# Altium footprint library Type-C.PcbLib: 1 footprints
Each footprint in its own frame and in the unit in brackets; x right, y up, seen from the top. Pads: shape width x height; smd on the part's side, far side on the other; paste and mask are expansions set on the pad; w line width, h text height; cw(c..) or ccw(c..) is an arc to the next point about the centre after c.
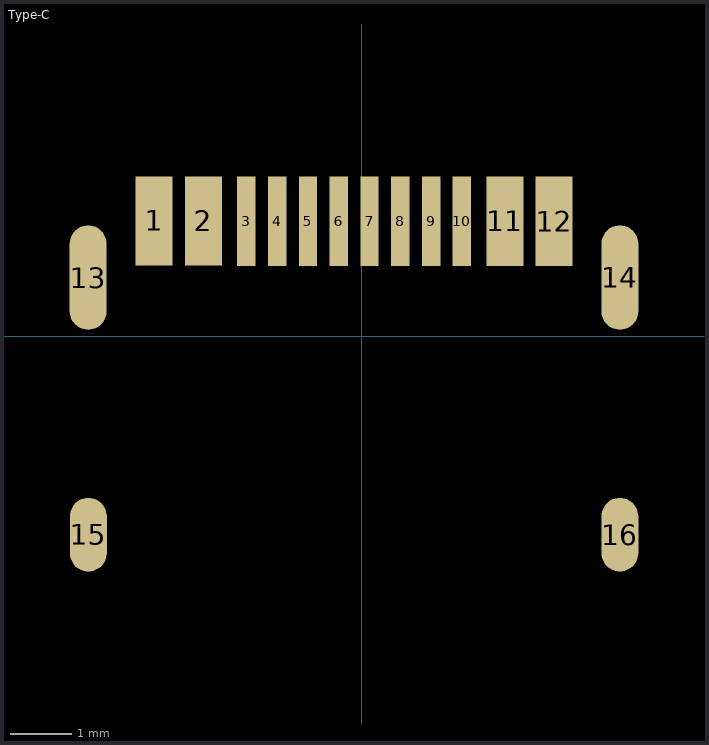
[diagram p0: the footprint, top view; thin cyan lines are the x and y axes]

## Type-C [mm]
pads (16):
  rect 0.6x1.45 all layers, no hole: 1(-3.375,1.875) 2(-2.575,1.875) 11(2.326,1.87) 12(3.126,1.87)
  rect 0.3x1.45 all layers, no hole: 3(-1.874,1.87) 4(-1.374,1.87) 5(-0.874,1.87) 6(-0.374,1.87) 7(0.126,1.87) 8(0.626,1.87) 9(1.126,1.87) 10(1.626,1.87)
  oval 0.6x1.7 all layers, no hole: 13(-4.448,0.955) 14(4.196,0.955)
  oval 0.6x1.2 all layers, no hole: 15(-4.444,-3.225) 16(4.196,-3.225)